# Altium footprint library QFP.PcbLib: 39 footprints (part 3 of 3)
Each footprint in its own frame and in the unit in brackets; x right, y up, seen from the top. Pads: shape width x height; smd on the part's side, far side on the other; paste and mask are expansions set on the pad; w line width, h text height; cw(c..) or ccw(c..) is an arc to the next point about the centre after c.
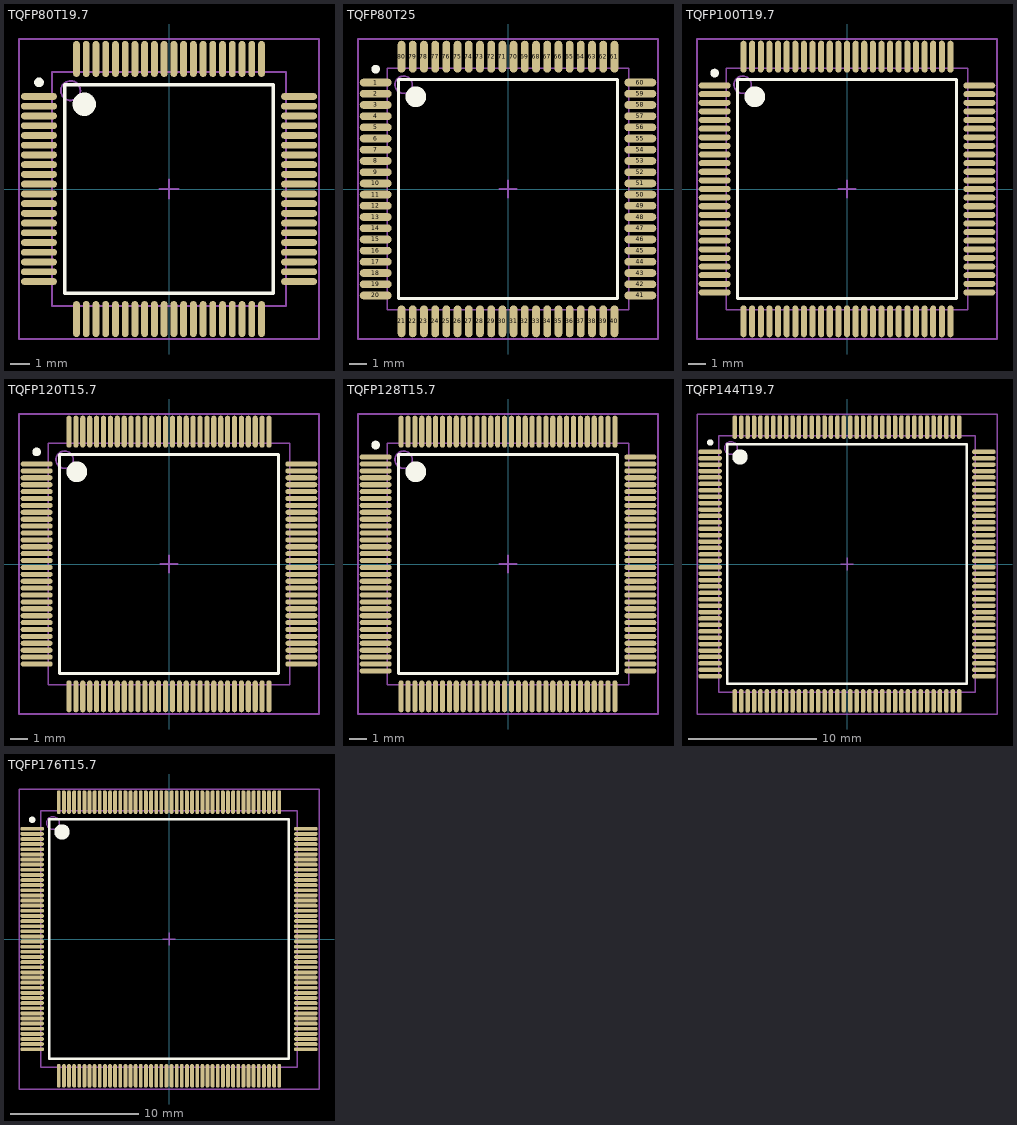
[diagram p2: the footprints below, top view; thin cyan lines are the x and y axes]

## TQFP80T19.7 [mm] "80 12 x 12mm 0.5mm (19.7mil)"
height 1
pads (80):
  oval 1.85x0.35 smd: 1(-6.675,4.75) 2(-6.675,4.25) 3(-6.675,3.75) 4(-6.675,3.25) 5(-6.675,2.75) 6(-6.675,2.25) 7(-6.675,1.75) 8(-6.675,1.25) 9(-6.675,0.75) 10(-6.675,0.25) 11(-6.675,-0.25) 12(-6.675,-0.75) 13(-6.675,-1.25) 14(-6.675,-1.75) 15(-6.675,-2.25) 16(-6.675,-2.75) 17(-6.675,-3.25) 18(-6.675,-3.75) 19(-6.675,-4.25) 20(-6.675,-4.75) 41(6.675,-4.75) 42(6.675,-4.25) 43(6.675,-3.75) 44(6.675,-3.25) 45(6.675,-2.75) 46(6.675,-2.25) 47(6.675,-1.75) 48(6.675,-1.25) 49(6.675,-0.75) 50(6.675,-0.25) 51(6.675,0.25) 52(6.675,0.75) 53(6.675,1.25) 54(6.675,1.75) 55(6.675,2.25) 56(6.675,2.75) 57(6.675,3.25) 58(6.675,3.75) 59(6.675,4.25) 60(6.675,4.75)
  oval 0.35x1.85 smd: 21(-4.75,-6.675) 22(-4.25,-6.675) 23(-3.75,-6.675) 24(-3.25,-6.675) 25(-2.75,-6.675) 26(-2.25,-6.675) 27(-1.75,-6.675) 28(-1.25,-6.675) 29(-0.75,-6.675) 30(-0.25,-6.675) 31(0.25,-6.675) 32(0.75,-6.675) 33(1.25,-6.675) 34(1.75,-6.675) 35(2.25,-6.675) 36(2.75,-6.675) 37(3.25,-6.675) 38(3.75,-6.675) 39(4.25,-6.675) 40(4.75,-6.675) 61(4.75,6.675) 62(4.25,6.675) 63(3.75,6.675) 64(3.25,6.675) 65(2.75,6.675) 66(2.25,6.675) 67(1.75,6.675) 68(1.25,6.675) 69(0.75,6.675) 70(0.25,6.675) 71(-0.25,6.675) 72(-0.75,6.675) 73(-1.25,6.675) 74(-1.75,6.675) 75(-2.25,6.675) 76(-2.75,6.675) 77(-3.25,6.675) 78(-3.75,6.675) 79(-4.25,6.675) 80(-4.75,6.675)
Top Overlay:
  circle w0.6: c-4.35,4.35 r0.3
  circle w0.25: c-6.675,5.475 r0.125
  lines w0.2: -5.35,-5.35 5.35,-5.35 5.35,5.35 -5.35,5.35 -5.35,-5.35
Mechanical 13:
  circle w0.1: c-5.05,5.05 r0.5
  lines w0.1: -6,-6 6,-6 6,6 -6,6 -6,-6
Mechanical 15:
  lines w0.1: -0.5,0 0.5,0 ; 0,-0.5 0,0.5 ; -7.7,-7.7 7.7,-7.7 7.7,7.7 -7.7,7.7 -7.7,-7.7
3D body: height 1, standoff 0.2, extent -6,-6 6,6

## TQFP80T25 [mm] "80   14 x 14mm   0.65mm (25.6mil)"
height 1
pads (80):
  oval 1.85x0.45 smd: 1(-7.675,6.175) 2(-7.675,5.525) 3(-7.675,4.875) 4(-7.675,4.225) 5(-7.675,3.575) 6(-7.675,2.925) 7(-7.675,2.275) 8(-7.675,1.625) 9(-7.675,0.975) 10(-7.675,0.325) 11(-7.675,-0.325) 12(-7.675,-0.975) 13(-7.675,-1.625) 14(-7.675,-2.275) 15(-7.675,-2.925) 16(-7.675,-3.575) 17(-7.675,-4.225) 18(-7.675,-4.875) 19(-7.675,-5.525) 20(-7.675,-6.175) 41(7.675,-6.175) 42(7.675,-5.525) 43(7.675,-4.875) 44(7.675,-4.225) 45(7.675,-3.575) 46(7.675,-2.925) 47(7.675,-2.275) 48(7.675,-1.625) 49(7.675,-0.975) 50(7.675,-0.325) 51(7.675,0.325) 52(7.675,0.975) 53(7.675,1.625) 54(7.675,2.275) 55(7.675,2.925) 56(7.675,3.575) 57(7.675,4.225) 58(7.675,4.875) 59(7.675,5.525) 60(7.675,6.175)
  oval 0.45x1.85 smd: 21(-6.175,-7.675) 22(-5.525,-7.675) 23(-4.875,-7.675) 24(-4.225,-7.675) 25(-3.575,-7.675) 26(-2.925,-7.675) 27(-2.275,-7.675) 28(-1.625,-7.675) 29(-0.975,-7.675) 30(-0.325,-7.675) 31(0.325,-7.675) 32(0.975,-7.675) 33(1.625,-7.675) 34(2.275,-7.675) 35(2.925,-7.675) 36(3.575,-7.675) 37(4.225,-7.675) 38(4.875,-7.675) 39(5.525,-7.675) 40(6.175,-7.675) 61(6.175,7.675) 62(5.525,7.675) 63(4.875,7.675) 64(4.225,7.675) 65(3.575,7.675) 66(2.925,7.675) 67(2.275,7.675) 68(1.625,7.675) 69(0.975,7.675) 70(0.325,7.675) 71(-0.325,7.675) 72(-0.975,7.675) 73(-1.625,7.675) 74(-2.275,7.675) 75(-2.925,7.675) 76(-3.575,7.675) 77(-4.225,7.675) 78(-4.875,7.675) 79(-5.525,7.675) 80(-6.175,7.675)
Top Overlay:
  circle w0.25: c-7.675,6.95 r0.125
  circle w0.6: c-5.35,5.35 r0.3
  lines w0.2: -6.35,-6.35 -6.35,6.35 6.35,6.35 6.35,-6.35 -6.35,-6.35
Mechanical 13:
  circle w0.1: c-6.05,6.05 r0.5
  lines w0.1: -7,-7 -7,7 7,7 7,-7 -7,-7
Mechanical 15:
  lines w0.1: -0.5,0 0.5,0 ; 0,-0.5 0,0.5 ; -8.7,-8.7 -8.7,8.7 8.7,8.7 8.7,-8.7 -8.7,-8.7
3D body: height 1, standoff 0.2, extent -7,-7 7,7

## TQFP100T19.7 [mm] "14 x 14mm 0.5mm (19.7mil)"
height 1
pads (100):
  oval 1.85x0.35 smd: 1(-7.675,6) 2(-7.675,5.5) 3(-7.675,5) 4(-7.675,4.5) 5(-7.675,4) 6(-7.675,3.5) 7(-7.675,3) 8(-7.675,2.5) 9(-7.675,2) 10(-7.675,1.5) 11(-7.675,1) 12(-7.675,0.5) 13(-7.675,0) 14(-7.675,-0.5) 15(-7.675,-1) 16(-7.675,-1.5) 17(-7.675,-2) 18(-7.675,-2.5) 19(-7.675,-3) 20(-7.675,-3.5) 21(-7.675,-4) 22(-7.675,-4.5) 23(-7.675,-5) 24(-7.675,-5.5) 25(-7.675,-6) 51(7.675,-6) 52(7.675,-5.5) 53(7.675,-5) 54(7.675,-4.5) 55(7.675,-4) 56(7.675,-3.5) 57(7.675,-3) 58(7.675,-2.5) 59(7.675,-2) 60(7.675,-1.5) 61(7.675,-1) 62(7.675,-0.5) 63(7.675,0) 64(7.675,0.5) 65(7.675,1) 66(7.675,1.5) 67(7.675,2) 68(7.675,2.5) 69(7.675,3) 70(7.675,3.5) 71(7.675,4) 72(7.675,4.5) 73(7.675,5) 74(7.675,5.5) 75(7.675,6)
  oval 0.35x1.85 smd: 26(-6,-7.675) 27(-5.5,-7.675) 28(-5,-7.675) 29(-4.5,-7.675) 30(-4,-7.675) 31(-3.5,-7.675) 32(-3,-7.675) 33(-2.5,-7.675) 34(-2,-7.675) 35(-1.5,-7.675) 36(-1,-7.675) 37(-0.5,-7.675) 38(0,-7.675) 39(0.5,-7.675) 40(1,-7.675) 41(1.5,-7.675) 42(2,-7.675) 43(2.5,-7.675) 44(3,-7.675) 45(3.5,-7.675) 46(4,-7.675) 47(4.5,-7.675) 48(5,-7.675) 49(5.5,-7.675) 50(6,-7.675) 76(6,7.675) 77(5.5,7.675) 78(5,7.675) 79(4.5,7.675) 80(4,7.675) 81(3.5,7.675) 82(3,7.675) 83(2.5,7.675) 84(2,7.675) 85(1.5,7.675) 86(1,7.675) 87(0.5,7.675) 88(0,7.675) 89(-0.5,7.675) 90(-1,7.675) 91(-1.5,7.675) 92(-2,7.675) 93(-2.5,7.675) 94(-3,7.675) 95(-3.5,7.675) 96(-4,7.675) 97(-4.5,7.675) 98(-5,7.675) 99(-5.5,7.675) 100(-6,7.675)
Top Overlay:
  circle w0.25: c-7.675,6.725 r0.125
  circle w0.6: c-5.35,5.35 r0.3
  lines w0.2: -6.35,-6.35 -6.35,6.35 6.35,6.35 6.35,-6.35 -6.35,-6.35
Mechanical 13:
  circle w0.1: c-6.05,6.05 r0.5
  lines w0.1: -7,-7 -7,7 7,7 7,-7 -7,-7
Mechanical 15:
  lines w0.1: -0.5,0 0.5,0 ; 0,-0.5 0,0.5 ; -8.7,-8.7 -8.7,8.7 8.7,8.7 8.7,-8.7 -8.7,-8.7
3D body: height 1, standoff 0.2, extent -7,-7 7,7

## TQFP120T15.7 [mm] "120 14 x 14mm 0.4mm (15.7mil)"
height 1
pads (120):
  oval 1.85x0.3 smd: 1(-7.675,5.8) 2(-7.675,5.4) 3(-7.675,5) 4(-7.675,4.6) 5(-7.675,4.2) 6(-7.675,3.8) 7(-7.675,3.4) 8(-7.675,3) 9(-7.675,2.6) 10(-7.675,2.2) 11(-7.675,1.8) 12(-7.675,1.4) 13(-7.675,1) 14(-7.675,0.6) 15(-7.675,0.2) 16(-7.675,-0.2) 17(-7.675,-0.6) 18(-7.675,-1) 19(-7.675,-1.4) 20(-7.675,-1.8) 21(-7.675,-2.2) 22(-7.675,-2.6) 23(-7.675,-3) 24(-7.675,-3.4) 25(-7.675,-3.8) 26(-7.675,-4.2) 27(-7.675,-4.6) 28(-7.675,-5) 29(-7.675,-5.4) 30(-7.675,-5.8) 61(7.675,-5.8) 62(7.675,-5.4) 63(7.675,-5) 64(7.675,-4.6) 65(7.675,-4.2) 66(7.675,-3.8) 67(7.675,-3.4) 68(7.675,-3) 69(7.675,-2.6) 70(7.675,-2.2) 71(7.675,-1.8) 72(7.675,-1.4) 73(7.675,-1) 74(7.675,-0.6) 75(7.675,-0.2) 76(7.675,0.2) 77(7.675,0.6) 78(7.675,1) 79(7.675,1.4) 80(7.675,1.8) 81(7.675,2.2) 82(7.675,2.6) 83(7.675,3) 84(7.675,3.4) 85(7.675,3.8) 86(7.675,4.2) 87(7.675,4.6) 88(7.675,5) 89(7.675,5.4) 90(7.675,5.8)
  oval 0.3x1.85 smd: 31(-5.8,-7.675) 32(-5.4,-7.675) 33(-5,-7.675) 34(-4.6,-7.675) 35(-4.2,-7.675) 36(-3.8,-7.675) 37(-3.4,-7.675) 38(-3,-7.675) 39(-2.6,-7.675) 40(-2.2,-7.675) 41(-1.8,-7.675) 42(-1.4,-7.675) 43(-1,-7.675) 44(-0.6,-7.675) 45(-0.2,-7.675) 46(0.2,-7.675) 47(0.6,-7.675) 48(1,-7.675) 49(1.4,-7.675) 50(1.8,-7.675) 51(2.2,-7.675) 52(2.6,-7.675) 53(3,-7.675) 54(3.4,-7.675) 55(3.8,-7.675) 56(4.2,-7.675) 57(4.6,-7.675) 58(5,-7.675) 59(5.4,-7.675) 60(5.8,-7.675) 91(5.8,7.675) 92(5.4,7.675) 93(5,7.675) 94(4.6,7.675) 95(4.2,7.675) 96(3.8,7.675) 97(3.4,7.675) 98(3,7.675) 99(2.6,7.675) 100(2.2,7.675) 101(1.8,7.675) 102(1.4,7.675) 103(1,7.675) 104(0.6,7.675) 105(0.2,7.675) 106(-0.2,7.675) 107(-0.6,7.675) 108(-1,7.675) 109(-1.4,7.675) 110(-1.8,7.675) 111(-2.2,7.675) 112(-2.6,7.675) 113(-3,7.675) 114(-3.4,7.675) 115(-3.8,7.675) 116(-4.2,7.675) 117(-4.6,7.675) 118(-5,7.675) 119(-5.4,7.675) 120(-5.8,7.675)
Top Overlay:
  circle w0.25: c-7.675,6.5 r0.125
  circle w0.6: c-5.35,5.35 r0.3
  lines w0.2: -6.35,-6.35 -6.35,6.35 6.35,6.35 6.35,-6.35 -6.35,-6.35
Mechanical 13:
  circle w0.1: c-6.05,6.05 r0.5
  lines w0.1: -7,-7 -7,7 7,7 7,-7 -7,-7
Mechanical 15:
  lines w0.1: -0.5,0 0.5,0 ; 0,-0.5 0,0.5 ; -8.7,-8.7 -8.7,8.7 8.7,8.7 8.7,-8.7 -8.7,-8.7
3D body: height 1, standoff 0.2, extent -7,-7 7,7

## TQFP128T15.7 [mm] "128   14 x 14mm   0.4mm (15.7mil)"
height 1
pads (128):
  oval 1.85x0.3 smd: 1(-7.675,6.2) 2(-7.675,5.8) 3(-7.675,5.4) 4(-7.675,5) 5(-7.675,4.6) 6(-7.675,4.2) 7(-7.675,3.8) 8(-7.675,3.4) 9(-7.675,3) 10(-7.675,2.6) 11(-7.675,2.2) 12(-7.675,1.8) 13(-7.675,1.4) 14(-7.675,1) 15(-7.675,0.6) 16(-7.675,0.2) 17(-7.675,-0.2) 18(-7.675,-0.6) 19(-7.675,-1) 20(-7.675,-1.4) 21(-7.675,-1.8) 22(-7.675,-2.2) 23(-7.675,-2.6) 24(-7.675,-3) 25(-7.675,-3.4) 26(-7.675,-3.8) 27(-7.675,-4.2) 28(-7.675,-4.6) 29(-7.675,-5) 30(-7.675,-5.4) 31(-7.675,-5.8) 32(-7.675,-6.2) 65(7.675,-6.2) 66(7.675,-5.8) 67(7.675,-5.4) 68(7.675,-5) 69(7.675,-4.6) 70(7.675,-4.2) 71(7.675,-3.8) 72(7.675,-3.4) 73(7.675,-3) 74(7.675,-2.6) 75(7.675,-2.2) 76(7.675,-1.8) 77(7.675,-1.4) 78(7.675,-1) 79(7.675,-0.6) 80(7.675,-0.2) 81(7.675,0.2) 82(7.675,0.6) 83(7.675,1) 84(7.675,1.4) 85(7.675,1.8) 86(7.675,2.2) 87(7.675,2.6) 88(7.675,3) 89(7.675,3.4) 90(7.675,3.8) 91(7.675,4.2) 92(7.675,4.6) 93(7.675,5) 94(7.675,5.4) 95(7.675,5.8) 96(7.675,6.2)
  oval 0.3x1.85 smd: 33(-6.2,-7.675) 34(-5.8,-7.675) 35(-5.4,-7.675) 36(-5,-7.675) 37(-4.6,-7.675) 38(-4.2,-7.675) 39(-3.8,-7.675) 40(-3.4,-7.675) 41(-3,-7.675) 42(-2.6,-7.675) 43(-2.2,-7.675) 44(-1.8,-7.675) 45(-1.4,-7.675) 46(-1,-7.675) 47(-0.6,-7.675) 48(-0.2,-7.675) 49(0.2,-7.675) 50(0.6,-7.675) 51(1,-7.675) 52(1.4,-7.675) 53(1.8,-7.675) 54(2.2,-7.675) 55(2.6,-7.675) 56(3,-7.675) 57(3.4,-7.675) 58(3.8,-7.675) 59(4.2,-7.675) 60(4.6,-7.675) 61(5,-7.675) 62(5.4,-7.675) 63(5.8,-7.675) 64(6.2,-7.675) 97(6.2,7.675) 98(5.8,7.675) 99(5.4,7.675) 100(5,7.675) 101(4.6,7.675) 102(4.2,7.675) 103(3.8,7.675) 104(3.4,7.675) 105(3,7.675) 106(2.6,7.675) 107(2.2,7.675) 108(1.8,7.675) 109(1.4,7.675) 110(1,7.675) 111(0.6,7.675) 112(0.2,7.675) 113(-0.2,7.675) 114(-0.6,7.675) 115(-1,7.675) 116(-1.4,7.675) 117(-1.8,7.675) 118(-2.2,7.675) 119(-2.6,7.675) 120(-3,7.675) 121(-3.4,7.675) 122(-3.8,7.675) 123(-4.2,7.675) 124(-4.6,7.675) 125(-5,7.675) 126(-5.4,7.675) 127(-5.8,7.675) 128(-6.2,7.675)
Top Overlay:
  circle w0.25: c-7.675,6.9 r0.125
  circle w0.6: c-5.35,5.35 r0.3
  lines w0.2: -6.35,-6.35 -6.35,6.35 6.35,6.35 6.35,-6.35 -6.35,-6.35
Mechanical 13:
  circle w0.1: c-6.05,6.05 r0.5
  lines w0.1: -7,-7 -7,7 7,7 7,-7 -7,-7
Mechanical 15:
  lines w0.1: -0.5,0 0.5,0 ; 0,-0.5 0,0.5 ; -8.7,-8.7 -8.7,8.7 8.7,8.7 8.7,-8.7 -8.7,-8.7
3D body: height 1, standoff 0.2, extent -7,-7 7,7

## TQFP144T19.7 [mm] "144   20 x 20mm   0.5mm (19.7mil)"
height 1
pads (144):
  oval 1.85x0.35 smd: 1(-10.675,8.75) 2(-10.675,8.25) 3(-10.675,7.75) 4(-10.675,7.25) 5(-10.675,6.75) 6(-10.675,6.25) 7(-10.675,5.75) 8(-10.675,5.25) 9(-10.675,4.75) 10(-10.675,4.25) 11(-10.675,3.75) 12(-10.675,3.25) 13(-10.675,2.75) 14(-10.675,2.25) 15(-10.675,1.75) 16(-10.675,1.25) 17(-10.675,0.75) 18(-10.675,0.25) 19(-10.675,-0.25) 20(-10.675,-0.75) 21(-10.675,-1.25) 22(-10.675,-1.75) 23(-10.675,-2.25) 24(-10.675,-2.75) 25(-10.675,-3.25) 26(-10.675,-3.75) 27(-10.675,-4.25) 28(-10.675,-4.75) 29(-10.675,-5.25) 30(-10.675,-5.75) 31(-10.675,-6.25) 32(-10.675,-6.75) 33(-10.675,-7.25) 34(-10.675,-7.75) 35(-10.675,-8.25) 36(-10.675,-8.75) 73(10.675,-8.75) 74(10.675,-8.25) 75(10.675,-7.75) 76(10.675,-7.25) 77(10.675,-6.75) 78(10.675,-6.25) 79(10.675,-5.75) 80(10.675,-5.25) 81(10.675,-4.75) 82(10.675,-4.25) 83(10.675,-3.75) 84(10.675,-3.25) 85(10.675,-2.75) 86(10.675,-2.25) 87(10.675,-1.75) 88(10.675,-1.25) 89(10.675,-0.75) 90(10.675,-0.25) 91(10.675,0.25) 92(10.675,0.75) 93(10.675,1.25) 94(10.675,1.75) 95(10.675,2.25) 96(10.675,2.75) 97(10.675,3.25) 98(10.675,3.75) 99(10.675,4.25) 100(10.675,4.75) 101(10.675,5.25) 102(10.675,5.75) 103(10.675,6.25) 104(10.675,6.75) 105(10.675,7.25) 106(10.675,7.75) 107(10.675,8.25) 108(10.675,8.75)
  oval 0.35x1.85 smd: 37(-8.75,-10.675) 38(-8.25,-10.675) 39(-7.75,-10.675) 40(-7.25,-10.675) 41(-6.75,-10.675) 42(-6.25,-10.675) 43(-5.75,-10.675) 44(-5.25,-10.675) 45(-4.75,-10.675) 46(-4.25,-10.675) 47(-3.75,-10.675) 48(-3.25,-10.675) 49(-2.75,-10.675) 50(-2.25,-10.675) 51(-1.75,-10.675) 52(-1.25,-10.675) 53(-0.75,-10.675) 54(-0.25,-10.675) 55(0.25,-10.675) 56(0.75,-10.675) 57(1.25,-10.675) 58(1.75,-10.675) 59(2.25,-10.675) 60(2.75,-10.675) 61(3.25,-10.675) 62(3.75,-10.675) 63(4.25,-10.675) 64(4.75,-10.675) 65(5.25,-10.675) 66(5.75,-10.675) 67(6.25,-10.675) 68(6.75,-10.675) 69(7.25,-10.675) 70(7.75,-10.675) 71(8.25,-10.675) 72(8.75,-10.675) 109(8.75,10.675) 110(8.25,10.675) 111(7.75,10.675) 112(7.25,10.675) 113(6.75,10.675) 114(6.25,10.675) 115(5.75,10.675) 116(5.25,10.675) 117(4.75,10.675) 118(4.25,10.675) 119(3.75,10.675) 120(3.25,10.675) 121(2.75,10.675) 122(2.25,10.675) 123(1.75,10.675) 124(1.25,10.675) 125(0.75,10.675) 126(0.25,10.675) 127(-0.25,10.675) 128(-0.75,10.675) 129(-1.25,10.675) 130(-1.75,10.675) 131(-2.25,10.675) 132(-2.75,10.675) 133(-3.25,10.675) 134(-3.75,10.675) 135(-4.25,10.675) 136(-4.75,10.675) 137(-5.25,10.675) 138(-5.75,10.675) 139(-6.25,10.675) 140(-6.75,10.675) 141(-7.25,10.675) 142(-7.75,10.675) 143(-8.25,10.675) 144(-8.75,10.675)
Top Overlay:
  circle w0.25: c-10.675,9.475 r0.125
  circle w0.6: c-8.35,8.35 r0.3
  lines w0.2: -9.35,-9.35 -9.35,9.35 9.35,9.35 9.35,-9.35 -9.35,-9.35
Mechanical 13:
  circle w0.1: c-9.05,9.05 r0.5
  lines w0.1: -10,-10 -10,10 10,10 10,-10 -10,-10
Mechanical 15:
  lines w0.1: -0.5,0 0.5,0 ; 0,-0.5 0,0.5 ; -11.7,-11.7 -11.7,11.7 11.7,11.7 11.7,-11.7 -11.7,-11.7
3D body: height 1, standoff 0.2, extent -10,-10 10,10

## TQFP176T15.7 [mm] "176   20 x 20mm   0.4mm (15.7mil)"
height 1
pads (176):
  oval 1.85x0.3 smd: 1(-10.675,8.6) 2(-10.675,8.2) 3(-10.675,7.8) 4(-10.675,7.4) 5(-10.675,7) 6(-10.675,6.6) 7(-10.675,6.2) 8(-10.675,5.8) 9(-10.675,5.4) 10(-10.675,5) 11(-10.675,4.6) 12(-10.675,4.2) 13(-10.675,3.8) 14(-10.675,3.4) 15(-10.675,3) 16(-10.675,2.6) 17(-10.675,2.2) 18(-10.675,1.8) 19(-10.675,1.4) 20(-10.675,1) 21(-10.675,0.6) 22(-10.675,0.2) 23(-10.675,-0.2) 24(-10.675,-0.6) 25(-10.675,-1) 26(-10.675,-1.4) 27(-10.675,-1.8) 28(-10.675,-2.2) 29(-10.675,-2.6) 30(-10.675,-3) 31(-10.675,-3.4) 32(-10.675,-3.8) 33(-10.675,-4.2) 34(-10.675,-4.6) 35(-10.675,-5) 36(-10.675,-5.4) 37(-10.675,-5.8) 38(-10.675,-6.2) 39(-10.675,-6.6) 40(-10.675,-7) 41(-10.675,-7.4) 42(-10.675,-7.8) 43(-10.675,-8.2) 44(-10.675,-8.6) 89(10.675,-8.6) 90(10.675,-8.2) 91(10.675,-7.8) 92(10.675,-7.4) 93(10.675,-7) 94(10.675,-6.6) 95(10.675,-6.2) 96(10.675,-5.8) 97(10.675,-5.4) 98(10.675,-5) 99(10.675,-4.6) 100(10.675,-4.2) 101(10.675,-3.8) 102(10.675,-3.4) 103(10.675,-3) 104(10.675,-2.6) 105(10.675,-2.2) 106(10.675,-1.8) 107(10.675,-1.4) 108(10.675,-1) 109(10.675,-0.6) 110(10.675,-0.2) 111(10.675,0.2) 112(10.675,0.6) 113(10.675,1) 114(10.675,1.4) 115(10.675,1.8) 116(10.675,2.2) 117(10.675,2.6) 118(10.675,3) 119(10.675,3.4) 120(10.675,3.8) 121(10.675,4.2) 122(10.675,4.6) 123(10.675,5) 124(10.675,5.4) 125(10.675,5.8) 126(10.675,6.2) 127(10.675,6.6) 128(10.675,7) 129(10.675,7.4) 130(10.675,7.8) 131(10.675,8.2) 132(10.675,8.6)
  oval 0.3x1.85 smd: 45(-8.6,-10.675) 46(-8.2,-10.675) 47(-7.8,-10.675) 48(-7.4,-10.675) 49(-7,-10.675) 50(-6.6,-10.675) 51(-6.2,-10.675) 52(-5.8,-10.675) 53(-5.4,-10.675) 54(-5,-10.675) 55(-4.6,-10.675) 56(-4.2,-10.675) 57(-3.8,-10.675) 58(-3.4,-10.675) 59(-3,-10.675) 60(-2.6,-10.675) 61(-2.2,-10.675) 62(-1.8,-10.675) 63(-1.4,-10.675) 64(-1,-10.675) 65(-0.6,-10.675) 66(-0.2,-10.675) 67(0.2,-10.675) 68(0.6,-10.675) 69(1,-10.675) 70(1.4,-10.675) 71(1.8,-10.675) 72(2.2,-10.675) 73(2.6,-10.675) 74(3,-10.675) 75(3.4,-10.675) 76(3.8,-10.675) 77(4.2,-10.675) 78(4.6,-10.675) 79(5,-10.675) 80(5.4,-10.675) 81(5.8,-10.675) 82(6.2,-10.675) 83(6.6,-10.675) 84(7,-10.675) 85(7.4,-10.675) 86(7.8,-10.675) 87(8.2,-10.675) 88(8.6,-10.675) 133(8.6,10.675) 134(8.2,10.675) 135(7.8,10.675) 136(7.4,10.675) 137(7,10.675) 138(6.6,10.675) 139(6.2,10.675) 140(5.8,10.675) 141(5.4,10.675) 142(5,10.675) 143(4.6,10.675) 144(4.2,10.675) 145(3.8,10.675) 146(3.4,10.675) 147(3,10.675) 148(2.6,10.675) 149(2.2,10.675) 150(1.8,10.675) 151(1.4,10.675) 152(1,10.675) 153(0.6,10.675) 154(0.2,10.675) 155(-0.2,10.675) 156(-0.6,10.675) 157(-1,10.675) 158(-1.4,10.675) 159(-1.8,10.675) 160(-2.2,10.675) 161(-2.6,10.675) 162(-3,10.675) 163(-3.4,10.675) 164(-3.8,10.675) 165(-4.2,10.675) 166(-4.6,10.675) 167(-5,10.675) 168(-5.4,10.675) 169(-5.8,10.675) 170(-6.2,10.675) 171(-6.6,10.675) 172(-7,10.675) 173(-7.4,10.675) 174(-7.8,10.675) 175(-8.2,10.675) 176(-8.6,10.675)
Top Overlay:
  circle w0.6: c-8.35,8.35 r0.3
  circle w0.25: c-10.675,9.3 r0.125
  lines w0.2: -9.35,-9.35 9.35,-9.35 9.35,9.35 -9.35,9.35 -9.35,-9.35
Mechanical 13:
  circle w0.1: c-9.05,9.05 r0.5
  lines w0.1: -10,-10 10,-10 10,10 -10,10 -10,-10
Mechanical 15:
  lines w0.1: -0.5,0 0.5,0 ; 0,-0.5 0,0.5 ; -11.7,-11.7 11.7,-11.7 11.7,11.7 -11.7,11.7 -11.7,-11.7
3D body: height 1, standoff 0.2, extent -10,-10 10,10